# Altium footprint library DPAK (TO-252).PcbLib: 1 footprints
Each footprint in its own frame and in the unit in brackets; x right, y up, seen from the top. Pads: shape width x height; smd on the part's side, far side on the other; paste and mask are expansions set on the pad; w line width, h text height; cw(c..) or ccw(c..) is an arc to the next point about the centre after c.
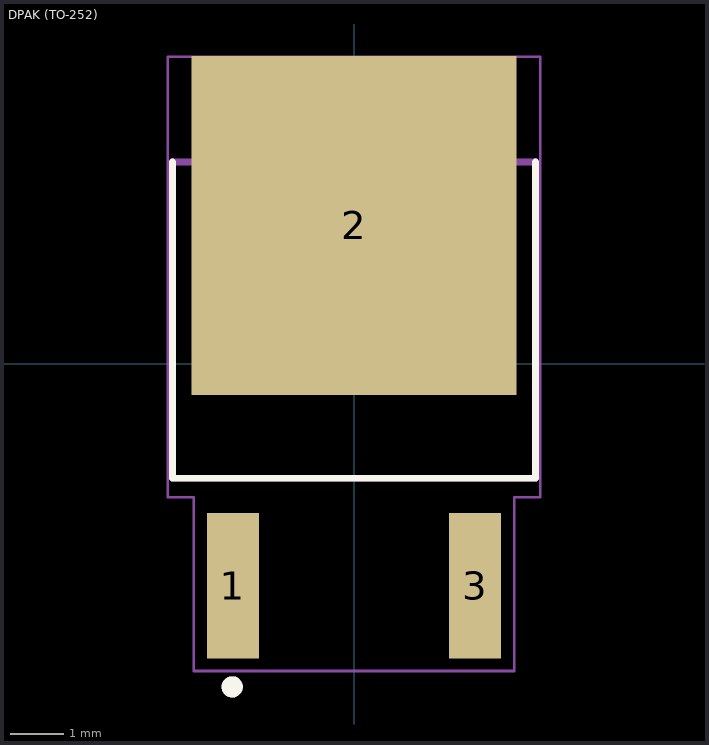
[diagram p0: the footprint, top view; thin cyan lines are the x and y axes]

## DPAK (TO-252) [mil]
pads (3):
  rect 38.58x107.87 smd: 1(-90,-165) 3(90,-165)
  rect 241.67x251.97 smd paste-157.48: 2(0,103)
Top Overlay:
  circle w7.87: c-90.55,-240.16 r3.94
  lines w5: -135,150 -135,-85 135,-85 135,150
Top Paste:
  region: -20.87,124.02 -90.16,124.02 -90.16,198.03 -20.87,198.03
  region: 90.16,124.02 20.87,124.02 20.87,198.03 90.16,198.03
  region: -20.87,8.27 -90.16,8.27 -90.16,82.28 -20.87,82.28
  region: 90.16,8.27 20.87,8.27 20.87,82.28 90.16,82.28
Mechanical 13:
  circle w7.87: c-90.55,-240.16 r3.94
  lines w5: -135,150 135,150 ; -135,150.59 -135,-85 135,-85 135,150.59
Mechanical 15:
  lines w1.97: -138.58,-99.21 -138.58,228.35 138.58,228.35 138.58,-99.21 119.13,-99.21 119.13,-228.35 -119.13,-228.35 -119.13,-99.21 -138.58,-99.21
3D body "DPAK.STEP": height 96.93, standoff -2.07, extent -127.95,-185.49 127.96,204.51